# Altium footprint library AltiumDesigner.PcbLib: 1 footprints
Each footprint in its own frame and in the unit in brackets; x right, y up, seen from the top. Pads: shape width x height; smd on the part's side, far side on the other; paste and mask are expansions set on the pad; w line width, h text height; cw(c..) or ccw(c..) is an arc to the next point about the centre after c.
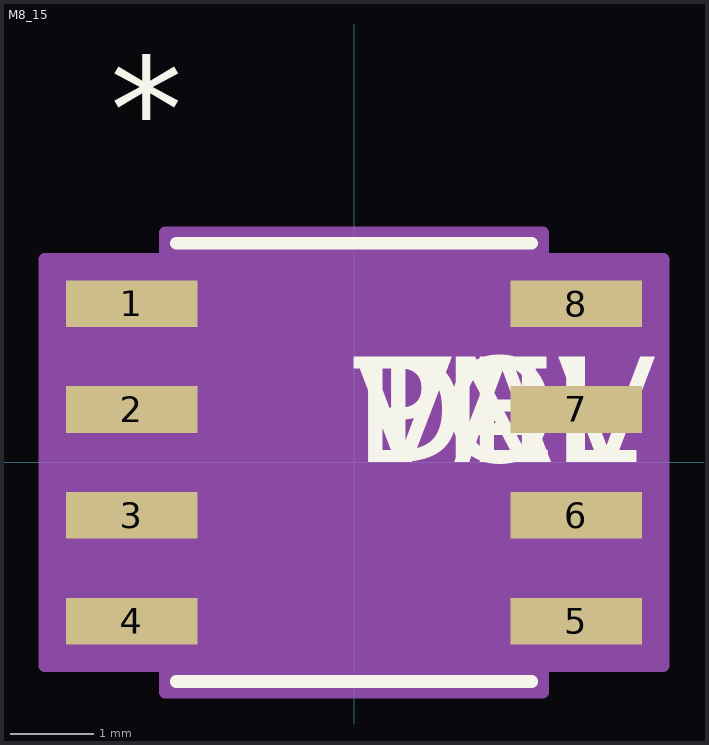
[diagram p0: the footprint, top view; thin cyan lines are the x and y axes]

## M8_15 [mil]
pads (8):
  rect 62x22 smd: 1(-105,75) 2(-105,25) 3(-105,-25) 4(-105,-75) 5(105,-75) 6(105,-25) 7(105,25) 8(105,75)
Top Overlay:
  lines w6: -84,-103.5 84,-103.5 ; -84,103.5 84,103.5
  text "*" at -115,142 h50
  text "PN" at 0,0 h50
  text "DEV" at 0,0 h50
  text "VAL" at 0,0 h50
  text "TOL" at 0,0 h50
Mechanical 13:
  lines w0: -12,98.5 ccw(c0,98.5) 12,98.5
  text "*" at -64,95.5 h50
  text "RefDes2" at 0,0 h50
Mechanical 15:
  region: -89,-96 -146,-96 -146,96 -89,96 -89,108.5 89,108.5 89,96 146,96 146,-96 89,-96 89,-108.5 -89,-108.5
  lines w6: -146,-96 -146,96 -89,96 -89,108.5 89,108.5 89,96 146,96 146,-96 89,-96 89,-108.5 -89,-108.5 -89,-96 -146,-96